# EAGLE library part NHD-2.4-240320CF-CSXN-F (library LCD)
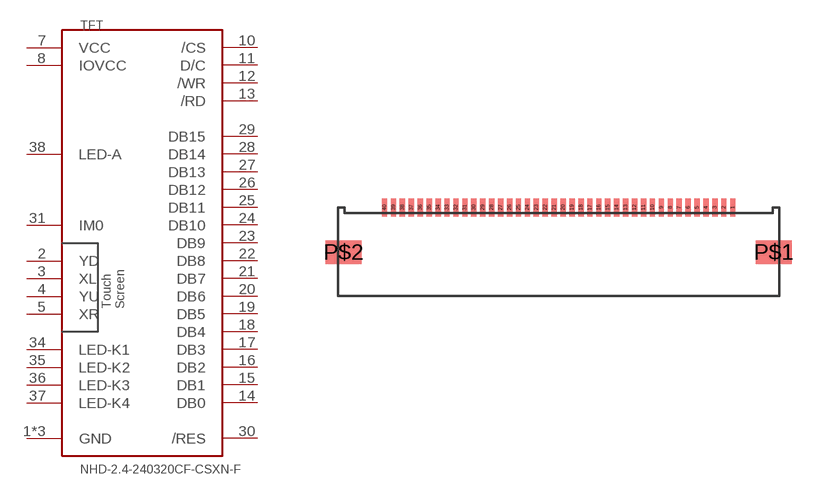
[diagram p1: symbol with the pads of MOLEX-505110-4091; footprint MOLEX-505110-4091]

Designator prefix TFT

## NHD-2.4-240320CF-CSXN-F  [MOLEX-505110-4091]
1  GND
2  YD
3  XL
4  YU
5  XR
7  VCC
8  IOVCC
10  /CS
11  D/C
12  /WR
13  /RD
14  DB0
15  DB1
16  DB2
17  DB3
18  DB4
19  DB5
20  DB6
21  DB7
22  DB8
23  DB9
24  DB10
25  DB11
26  DB12
27  DB13
28  DB14
29  DB15
30  /RES
31  IM0
33  GND
34  LED-K1
35  LED-K2
36  LED-K3
37  LED-K4
38  LED-A
39  GND

## Footprint MOLEX-505110-4091 (pad centres in mm)
Molex 505110-4091 0.50mm Pitch Easy-On™ Type FFC/FPC Connector, 1.90mm Height, Double Bottom Contact Type (FD19 Series), Right Angle, Surface Mount, ZIF, 40 Circuits
smd 0.3 x 1: 1 9.75,0; 2 9.25,0; 3 8.75,0; 4 8.25,0; 5 7.75,0; 6 7.25,0; 7 6.75,0; 8 6.25,0; 9 5.75,0; 10 5.25,0; 11 4.75,0; 12 4.25,0; 13 3.75,0; 14 3.25,0; 15 2.75,0; 16 2.25,0; 17 1.75,0; 18 1.25,0; 19 0.75,0; 20 0.25,0; 21 -0.25,0; 22 -0.75,0; 23 -1.25,0; 24 -1.75,0; 25 -2.25,0; 26 -2.75,0; 27 -3.25,0; 28 -3.75,0; 29 -4.25,0; 30 -4.75,0; 31 -5.25,0; 32 -5.75,0; 33 -6.25,0; 34 -6.75,0; 35 -7.25,0; 36 -7.75,0; 37 -8.25,0; 38 -8.75,0; 39 -9.25,0; 40 -9.75,0
smd 2 x 1.3: P$1 12.05,-2.5; P$2 -12.05,-2.5